# Altium footprint library WURTH_750310355.PcbLib: 2 footprints
Each footprint in its own frame and in the unit in brackets; x right, y up, seen from the top. Pads: shape width x height; smd on the part's side, far side on the other; paste and mask are expansions set on the pad; w line width, h text height; cw(c..) or ccw(c..) is an arc to the next point about the centre after c.
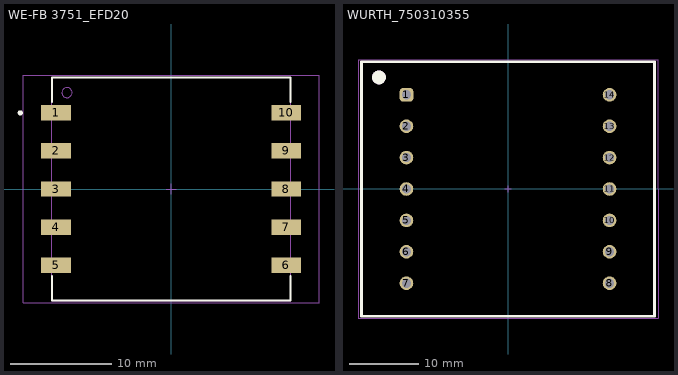
[diagram p0: the footprints below, top view; thin cyan lines are the x and y axes]

## WE-FB 3751_EFD20 [mm] "Flyback Transformer for LT3751, size EE35/18/10"
height 11.43
pads (10):
  rect 2.92x1.52 smd: 1(-11.33,7.5) 2(-11.33,3.75) 3(-11.33,0) 4(-11.33,-3.75) 5(-11.33,-7.5) 6(11.33,-7.5) 7(11.33,-3.75) 8(11.33,0) 9(11.33,3.75) 10(11.33,7.5)
Top Overlay:
  circle w0.25: c-14.85,7.5 r0.125
  lines w0.2: -11.75,-8.55 -11.75,-10.985 11.75,-10.985 11.75,-8.55 ; -11.75,8.55 -11.75,10.985 11.75,10.985 11.75,8.55
Mechanical 3:
  text ".Designator" at -7.498,-0.5 h1.5
Top Component Outline:
  circle w0.1: c-10.25,9.485 r0.5
  lines w0.1: -11.75,-10.985 -11.75,10.985 11.75,10.985 11.75,-10.985 -11.75,-10.985
Mechanical 15:
  lines w0.05: -14.55,-11.185 14.55,-11.185 14.55,11.185 -14.55,11.185 -14.55,-11.185
Top Component Center:
  lines w0.05: -0.5,0 0.5,0 ; 0,-0.5 0,0.5
3D body "EFD20_750032051.stp": height 10.23, standoff 0, extent -13.75,-10.75 13.75,10.75

## WURTH_750310355 [mm]
height 23
pads (14):
  rrect50% 1.95x1.95 hole 1.32: 1(-14.55,13.5)
  round 1.95 hole 1.32: 2(-14.55,9) 3(-14.55,4.5) 4(-14.55,0) 5(-14.55,-4.5) 6(-14.55,-9) 7(-14.55,-13.5) 8(14.55,-13.5) 9(14.55,-9) 10(14.55,-4.5) 11(14.55,0) 12(14.55,4.5) 13(14.55,9) 14(14.55,13.5)
Top Overlay:
  circle w1: c-18.5,16 r0.5
  lines w0.4: -21,-18.25 21,-18.25 21,18.25 -21,18.25 -21,-18.25
Mechanical 13:
  circle w1: c-18.5,16 r0.5
  lines w0.1: -21,-18.25 -21,18.25 21,18.25 21,-18.25 -21,-18.25
Mechanical 15:
  lines w0.05: -21.5,-18.5 -21.5,18.5 21.5,18.5 21.5,-18.5 -21.5,-18.5
  lines w0.1: -0.5,0 0.5,0 ; 0,-0.5 0,0.5
3D body "EE35_750310349.stp": height 22.35, standoff -2.64, extent -20.55,-17.3 20.55,17.3